# Altium footprint library CustomFootprints.PcbLib: 45 footprints (part 2 of 3)
Each footprint in its own frame and in the unit in brackets; x right, y up, seen from the top. Pads: shape width x height; smd on the part's side, far side on the other; paste and mask are expansions set on the pad; w line width, h text height; cw(c..) or ccw(c..) is an arc to the next point about the centre after c.
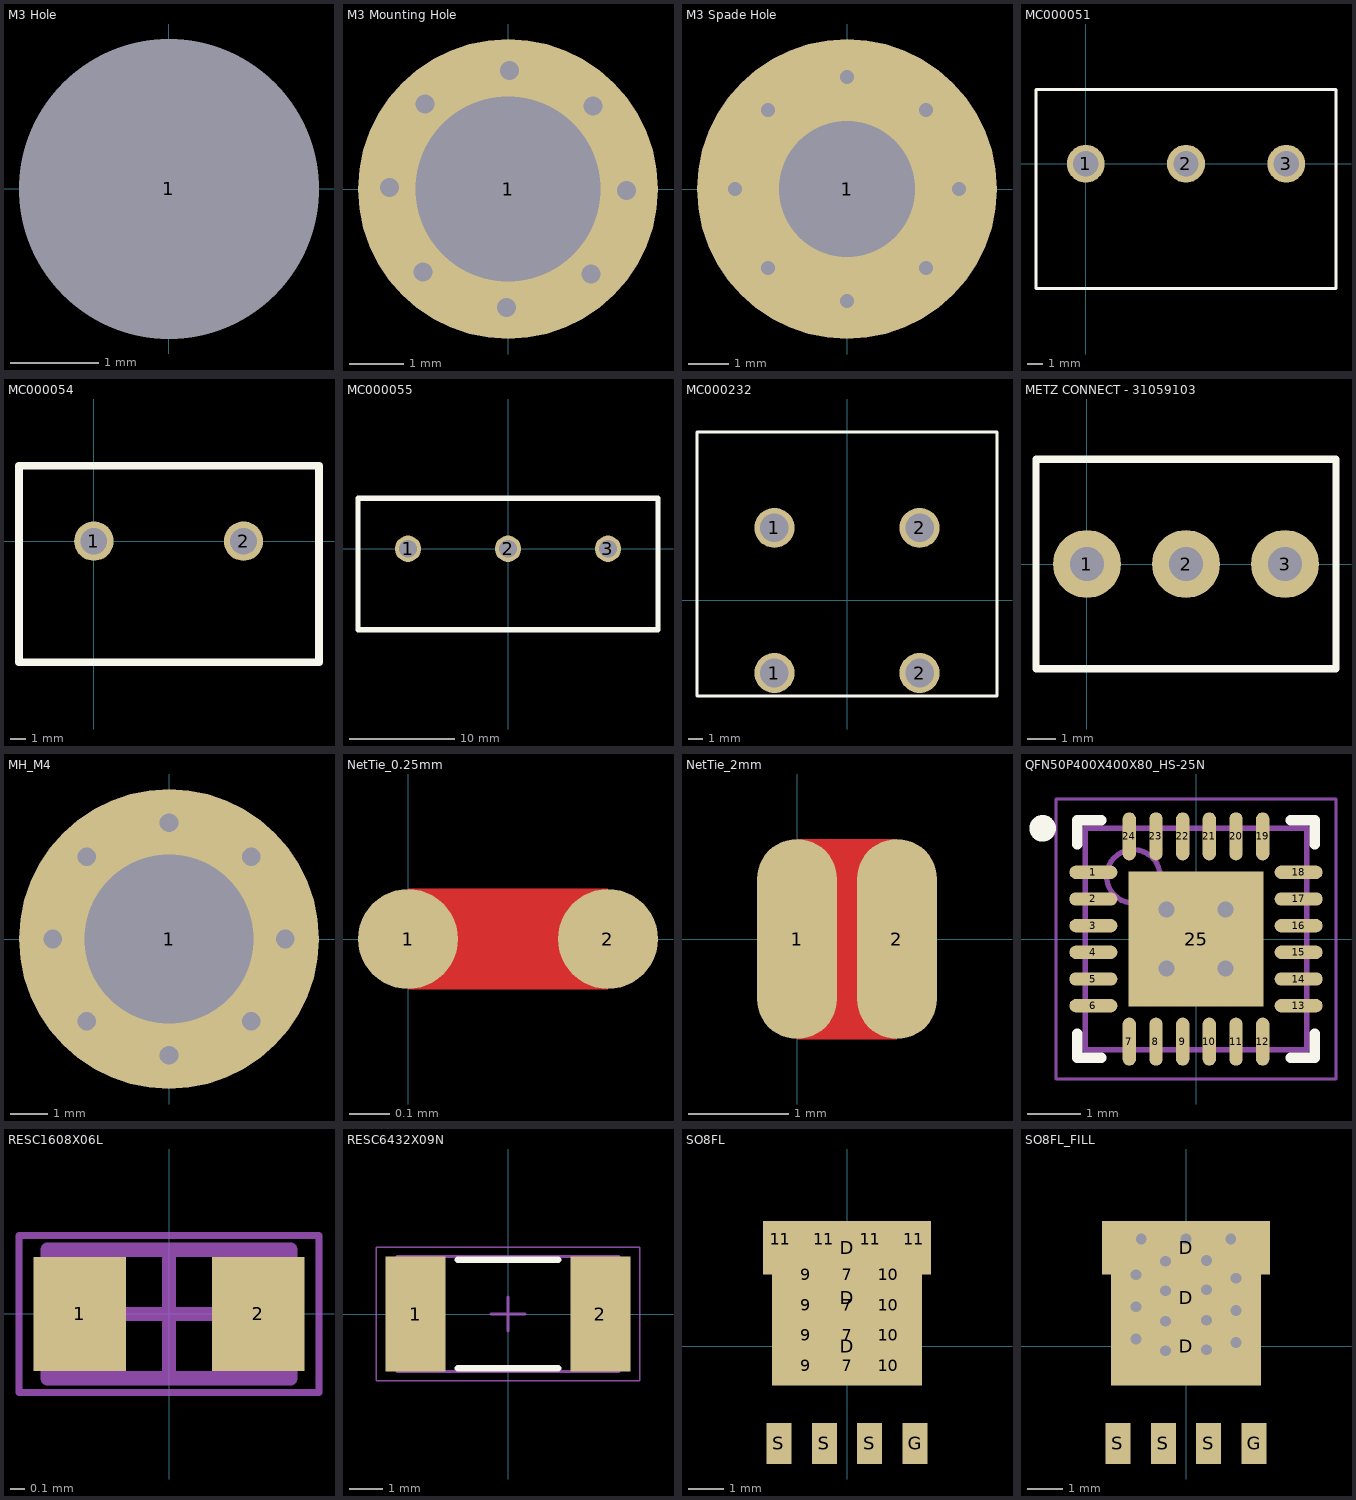
[diagram p1: the footprints below, top view; thin cyan lines are the x and y axes]

## M3 Hole [mm] "M3 Hole with no copper"
pads (1):
  round 3 hole 3.4 unplated: 1(0,0)

## M3 Mounting Hole [mm]
pads (1):
  round 5.5 hole 3.4: 1(0,0)
via 1.52,-1.556 diameter 0.7 hole 0.35
via -0.025,-2.175 diameter 0.7 hole 0.35
via -1.556,-1.52 diameter 0.7 hole 0.35
via -2.175,0.025 diameter 0.7 hole 0.35
via -1.52,1.556 diameter 0.7 hole 0.35
via 0.025,2.175 diameter 0.7 hole 0.35
via 1.556,1.52 diameter 0.7 hole 0.35
via 2.175,-0.025 diameter 0.7 hole 0.35

## M3 Spade Hole [mm]
pads (1):
  round 7.5 hole 3.4: 1(0,0)
via 2.8,0 diameter 0.7 hole 0.35
via 1.98,1.98 diameter 0.7 hole 0.35
via 0,2.8 diameter 0.7 hole 0.35
via -1.98,1.98 diameter 0.7 hole 0.35
via -2.8,0 diameter 0.7 hole 0.35
via -1.98,-1.98 diameter 0.7 hole 0.35
via 0,-2.8 diameter 0.7 hole 0.35
via 1.98,-1.98 diameter 0.7 hole 0.35

## MC000051 [mm] "TERMINAL BLOCK, WIRE TO BRD, 3POS, 10AWG"
height 22
pads (3):
  round 2.4 hole 1.6: 1(0,0) 2(6.35,0) 3(12.7,0)
Top Overlay:
  lines w0.2: -3.15,-7.9 -3.15,4.7 15.85,4.7 15.85,-7.9 -3.15,-7.9

## MC000054 [mm] "MULTICOMP  Wire-To-Board Terminal Block, 2, 600 V, 30 A, 24 AWG, 10 AWG"
height 22
pads (2):
  round 2.5 hole 1.7: 1(0,0) 2(9.52,0)
Top Overlay:
  lines w0.5: -4.76,-7.7 -4.76,4.8 14.32,4.8 14.32,-7.7 -4.76,-7.7

## MC000055 [mm] "Multicomp Wire-To-Board Terminal Block, 3, 600 V, 30 A, 24 AWG, 10 AWG"
height 22
pads (3):
  round 2.5 hole 1.7: 1(-9.52,0) 2(0,0) 3(9.52,0)
Top Overlay:
  lines w0.5: -14.28,-7.7 14.28,-7.7 14.28,4.8 -14.28,4.8 -14.28,-7.7

## MC000232 [mm] "TERMINAL BLOCK, WIRE TO BRD, 2POS, 6AWG"
height 28
pads (4):
  round 2.8 hole 2: 1(-5.08,-5.08) 1(-5.08,5.08) 2(5.08,-5.08) 2(5.08,5.08)
Top Overlay:
  lines w0.2: -10.5,-6.7 -10.5,11.8 10.5,11.8 10.5,-6.7 5,-6.7 -5,-6.7 -10.5,-6.7

## METZ CONNECT - 31059103 [mm] "TERMINAL BLOCK, PCB, 3POS, 28-16AWG"
height 8.2
pads (3):
  round 2.4 hole 1.2: 1(0,0) 2(3.5,0) 3(7,0)
Top Overlay:
  lines w0.254: -1.8,-3.7 8.8,-3.7 8.8,0 8.8,3.7 -1.8,3.7 -1.8,0 -1.8,-3.7

## MH_M4 [mm] "Plated and viad M4 mounting hole"
pads (1):
  round 8 hole 4.5: 1(0,0)
via 2.192,-2.192 diameter 1.27 hole 0.5
via 0,-3.1 diameter 1.27 hole 0.5
via -2.192,-2.192 diameter 1.27 hole 0.5
via -3.1,0 diameter 1.27 hole 0.5
via -2.192,2.192 diameter 1.27 hole 0.5
via 0,3.1 diameter 1.27 hole 0.5
via 2.192,2.192 diameter 1.27 hole 0.5
via 3.1,0 diameter 1.27 hole 0.5

## NetTie_0.25mm [mm] "Net tie, 0.25mm"
pads (2):
  round 0.25 smd paste-2: 1(0,0) 2(0.5,0)
Top Layer:
  region: 0,0.125 0.5,0.125 0.5,-0.125 0,-0.125

## NetTie_2mm [mm] "Net tie, 2mm round"
pads (2):
  oval 0.8x2 smd paste-2: 1(0,0) 2(1,0)
Top Layer:
  region: 0,1 1,1 1,-1 0,-1

## QFN50P400X400X80_HS-25N [mm] "QFN, 24-Leads, Body 4.00x4.00mm, Pitch 0.50mm, Thermal Pad 2.54x2.54mm, IPC Medium Density"
height 0.8
pads (25):
  oval 0.9x0.25 smd: 1(-1.925,1.25) 2(-1.925,0.75) 3(-1.925,0.25) 4(-1.925,-0.25) 5(-1.925,-0.75) 6(-1.925,-1.25) 13(1.925,-1.25) 14(1.925,-0.75) 15(1.925,-0.25) 16(1.925,0.25) 17(1.925,0.75) 18(1.925,1.25)
  oval 0.25x0.9 smd: 7(-1.25,-1.925) 8(-0.75,-1.925) 9(-0.25,-1.925) 10(0.25,-1.925) 11(0.75,-1.925) 12(1.25,-1.925) 19(1.25,1.925) 20(0.75,1.925) 21(0.25,1.925) 22(-0.25,1.925) 23(-0.75,1.925) 24(-1.25,1.925)
  rect 2.54x2.54 smd: 25(0,0)
via 0.55,0.55 diameter 0.7 hole 0.3
via -0.55,0.55 diameter 0.7 hole 0.3
via -0.55,-0.55 diameter 0.7 hole 0.3
via 0.55,-0.55 diameter 0.7 hole 0.3
Top Overlay:
  circle w0.25: c-2.875,2.075 r0.125
  lines w0.2: -2.225,-1.775 -2.225,-2.225 -1.775,-2.225 ; -2.225,1.775 -2.225,2.225 -1.775,2.225 ; 1.775,-2.225 2.225,-2.225 2.225,-1.775 ; 1.775,2.225 2.225,2.225 2.225,1.775
Mechanical 13:
  circle w0.1: c-1.175,1.175 r0.5
  lines w0.1: -2.075,-2.075 2.075,-2.075 2.075,2.075 -2.075,2.075 -2.075,-2.075
Mechanical 15:
  lines w0.05: -2.625,-2.625 2.625,-2.625 2.625,2.625 -2.625,2.625 -2.625,-2.625
  lines w0.1: -0.5,0 0.5,0 ; 0,-0.5 0,0.5
3D body: height 0.8, standoff 0.01, extent -2.075,-2.075 2.075,2.075

## RESC1608X06L [mm] "Chip Resistor, 2-Leads, Body 1.60x0.80mm, IPC High Density"
height 0.6
pads (2):
  rect 0.65x0.8 smd: 1(-0.625,0) 2(0.625,0)
Mechanical 13:
  lines w0.1: -0.85,-0.45 -0.85,0.45 0.85,0.45 0.85,-0.45 -0.85,-0.45
Mechanical 15:
  lines w0.05: -1.05,-0.55 -1.05,0.55 1.05,0.55 1.05,-0.55 -1.05,-0.55
  lines w0.1: -0.45,0 0.45,0 ; 0,-0.45 0,0.45
3D body: height 0.6, standoff 0, extent -0.55,-0.45 0.55,0.45
3D body: height 0.6, standoff 0, extent -0.85,-0.45 -0.55,0.45
3D body: height 0.6, standoff 0, extent 0.55,-0.45 0.85,0.45

## RESC6432X09N [mm] "Chip Resistor, 2-Leads, Body 6.40x3.20mm, IPC Medium Density"
height 0.9
pads (2):
  rect 1.8x3.45 smd: 1(-2.775,0) 2(2.775,0)
Top Overlay:
  lines w0.2: -1.5,-1.625 1.5,-1.625 ; -1.5,1.625 1.5,1.625
Mechanical 13:
  lines w0.1: -3.325,-1.725 3.325,-1.725 3.325,1.725 -3.325,1.725 -3.325,-1.725
Mechanical 15:
  lines w0.05: -3.95,-2 3.95,-2 3.95,2 -3.95,2 -3.95,-2
  lines w0.1: -0.5,0 0.5,0 ; 0,-0.5 0,0.5
3D body: height 0.9, standoff 0, extent 2.425,-1.725 3.325,1.725
3D body: height 0.9, standoff 0, extent -3.325,-1.725 -2.425,1.725
3D body: height 0.9, standoff 0, extent -2.425,-1.725 2.425,1.725

## SO8FL [mm] "DFN5 5x6, 1.27P  (SO-8FL)  CASE 488AA"
height 1
pads (23):
  rect 0.9x0.6 on Top Paste: 7(0,-0.55) 7(0,0.3) 7(0,1.15) 7(0,2) 9(-1.15,-0.55) 9(-1.15,0.3) 9(-1.15,1.15) 9(-1.15,2) 10(1.15,-0.55) 10(1.15,0.3) 10(1.15,1.15) 10(1.15,2)
  rect 0.6x0.9 on Top Paste: 11(-1.875,3) 11(-0.65,3) 11(0.65,3) 11(1.875,3)
  rect 4.2x2.2 smd paste-10 mask+0.075: D(0,0) D(0,1.35)
  rect 4.7x1.5 smd paste-10 mask+0.075: D(0,2.75)
  rect 0.7x1.15 smd paste-0.05 mask+0.075: G(1.905,-2.725) S(-1.905,-2.725) S(-0.635,-2.725) S(0.635,-2.725)
3D body "User Library-DFN5x6_SO8FL.STEP": height 1.13, standoff 0, extent -2.575,-2.95 2.575,3.2

## SO8FL_FILL [mm] "DFN5 5x6, 1.27P  (SO-8FL)  CASE 488AA. Full solder paste"
height 1
pads (7):
  rect 4.2x2.2 smd paste-10 mask+0.075: D(0,0) D(0,1.35)
  rect 4.7x1.5 smd paste-10 mask+0.075: D(0,2.75)
  rect 0.7x1.15 smd paste-0.05 mask+0.075: G(1.905,-2.725) S(-1.905,-2.725) S(-0.635,-2.725) S(0.635,-2.725)
via -0.575,1.55 diameter 0.8 hole 0.3
via 0.575,1.575 diameter 0.8 hole 0.3
via -0.575,0.7 diameter 0.8 hole 0.3
via 0.575,-0.1 diameter 0.8 hole 0.3
via -0.575,-0.125 diameter 0.8 hole 0.3
via 0.575,2.4 diameter 0.8 hole 0.3
via -0.575,2.375 diameter 0.8 hole 0.3
via -1.25,3 diameter 0.8 hole 0.3
via 0,3 diameter 0.8 hole 0.3
via 1.25,3 diameter 0.8 hole 0.3
via 0.575,0.725 diameter 0.8 hole 0.3
via 1.4,1.9 diameter 0.8 hole 0.3
via 1.4,1 diameter 0.8 hole 0.3
via 1.4,0.1 diameter 0.8 hole 0.3
via -1.4,2 diameter 0.8 hole 0.3
via -1.4,1.1 diameter 0.8 hole 0.3
via -1.4,0.2 diameter 0.8 hole 0.3
Top Paste:
  region: -2.2,2.1 -2,2.1 -2,-1 2,-1 2,2.1 2.2,2.1 2.2,3.4 -2.2,3.4
Bottom Solder:
  region: -1,-0.3 0.9,-0.3 1.4,0.2 1.4,3 -1.5,3 -1.5,1 -1.5,0.2
3D body "User Library-DFN5x6_SO8FL.STEP": height 1.13, standoff 0, extent -2.575,-2.95 2.575,3.2